# EAGLE library part DEBUG_CON (library oresat-ACS_driver_board)
10 pin connector 2 mm pitch Male 90 degree Datasheet <https://cdn.harwin.com/pdfs/M22-253.pdf> Female Datasheet <https://cdn.harwin.com/pdfs/M22-713.pdf>
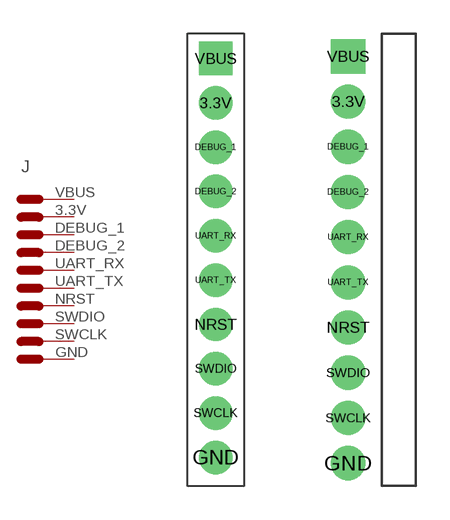
[diagram p4: symbol with the pads of DEBUG_CON_F; footprints DEBUG_CON_F, DEBUG_CON_L]

Designator prefix J

## DEBUG_CONF (DESCRIPTION: Conn Header 10 pos 2mm; DIST: Digi-Key; DIST_PN: 952-1354-5-ND; GENERIC: Y; MFG: Harwin Inc.; MFG_PN: M2-7131042; P-NP: P)  [DEBUG_CON_F]
3.3V  2
DEBUG_1  3
DEBUG_2  4
GND  10
NRST  7
SWCLK  9
SWDIO  8
UART_RX  5
UART_TX  6
VBUS  1

## DEBUG_CONL (DESCRIPTION: Conn Header 10 pos 2mm; DIST: Digi-Key; DIST_PN: 952-2287-ND; GENERIC: Y; MFG: Harwin Inc.; MFG_PN: M22-2531005; P-NP: P)  [DEBUG_CON_L]
Pads as for DEBUG_CON_F

## DEBUG_CONR (DESCRIPTION: Conn Header 10 pos 2mm; DIST: Digi-Key; DIST_PN: 952-2287-ND; GENERIC: Y; MFG: Harwin Inc.; MFG_PN: M22-2531005; P-NP: P)  [DEBUG_CON_R]
Pads as for DEBUG_CON_F

## Footprint DEBUG_CON_F (pad centres in mm)
drill 1: 3.3V 0,6; DEBUG_1 0,4; DEBUG_2 0,2; GND 0,-10; NRST 0,-4; SWCLK 0,-8; SWDIO 0,-6; UART_RX 0,0; UART_TX 0,-2
drill 1 square: VBUS 0,8

## Footprint DEBUG_CON_L (pad centres in mm)
drill 1: 3.3V 0,6; DEBUG_1 0,4; DEBUG_2 0,2; GND 0,-10; NRST 0,-4; SWCLK 0,-8; SWDIO 0,-6; UART_RX 0,0; UART_TX 0,-2
drill 1 square: VBUS 0,8

## Footprint DEBUG_CON_R (pad centres in mm)
drill 1: 3.3V 0,6; DEBUG_1 0,4; DEBUG_2 0,2; GND 0,-10; NRST 0,-4; SWCLK 0,-8; SWDIO 0,-6; UART_RX 0,0; UART_TX 0,-2
drill 1 square: VBUS 0,8